# EAGLE library part OSM_1.2_SIZE_0 (library Bauteile)
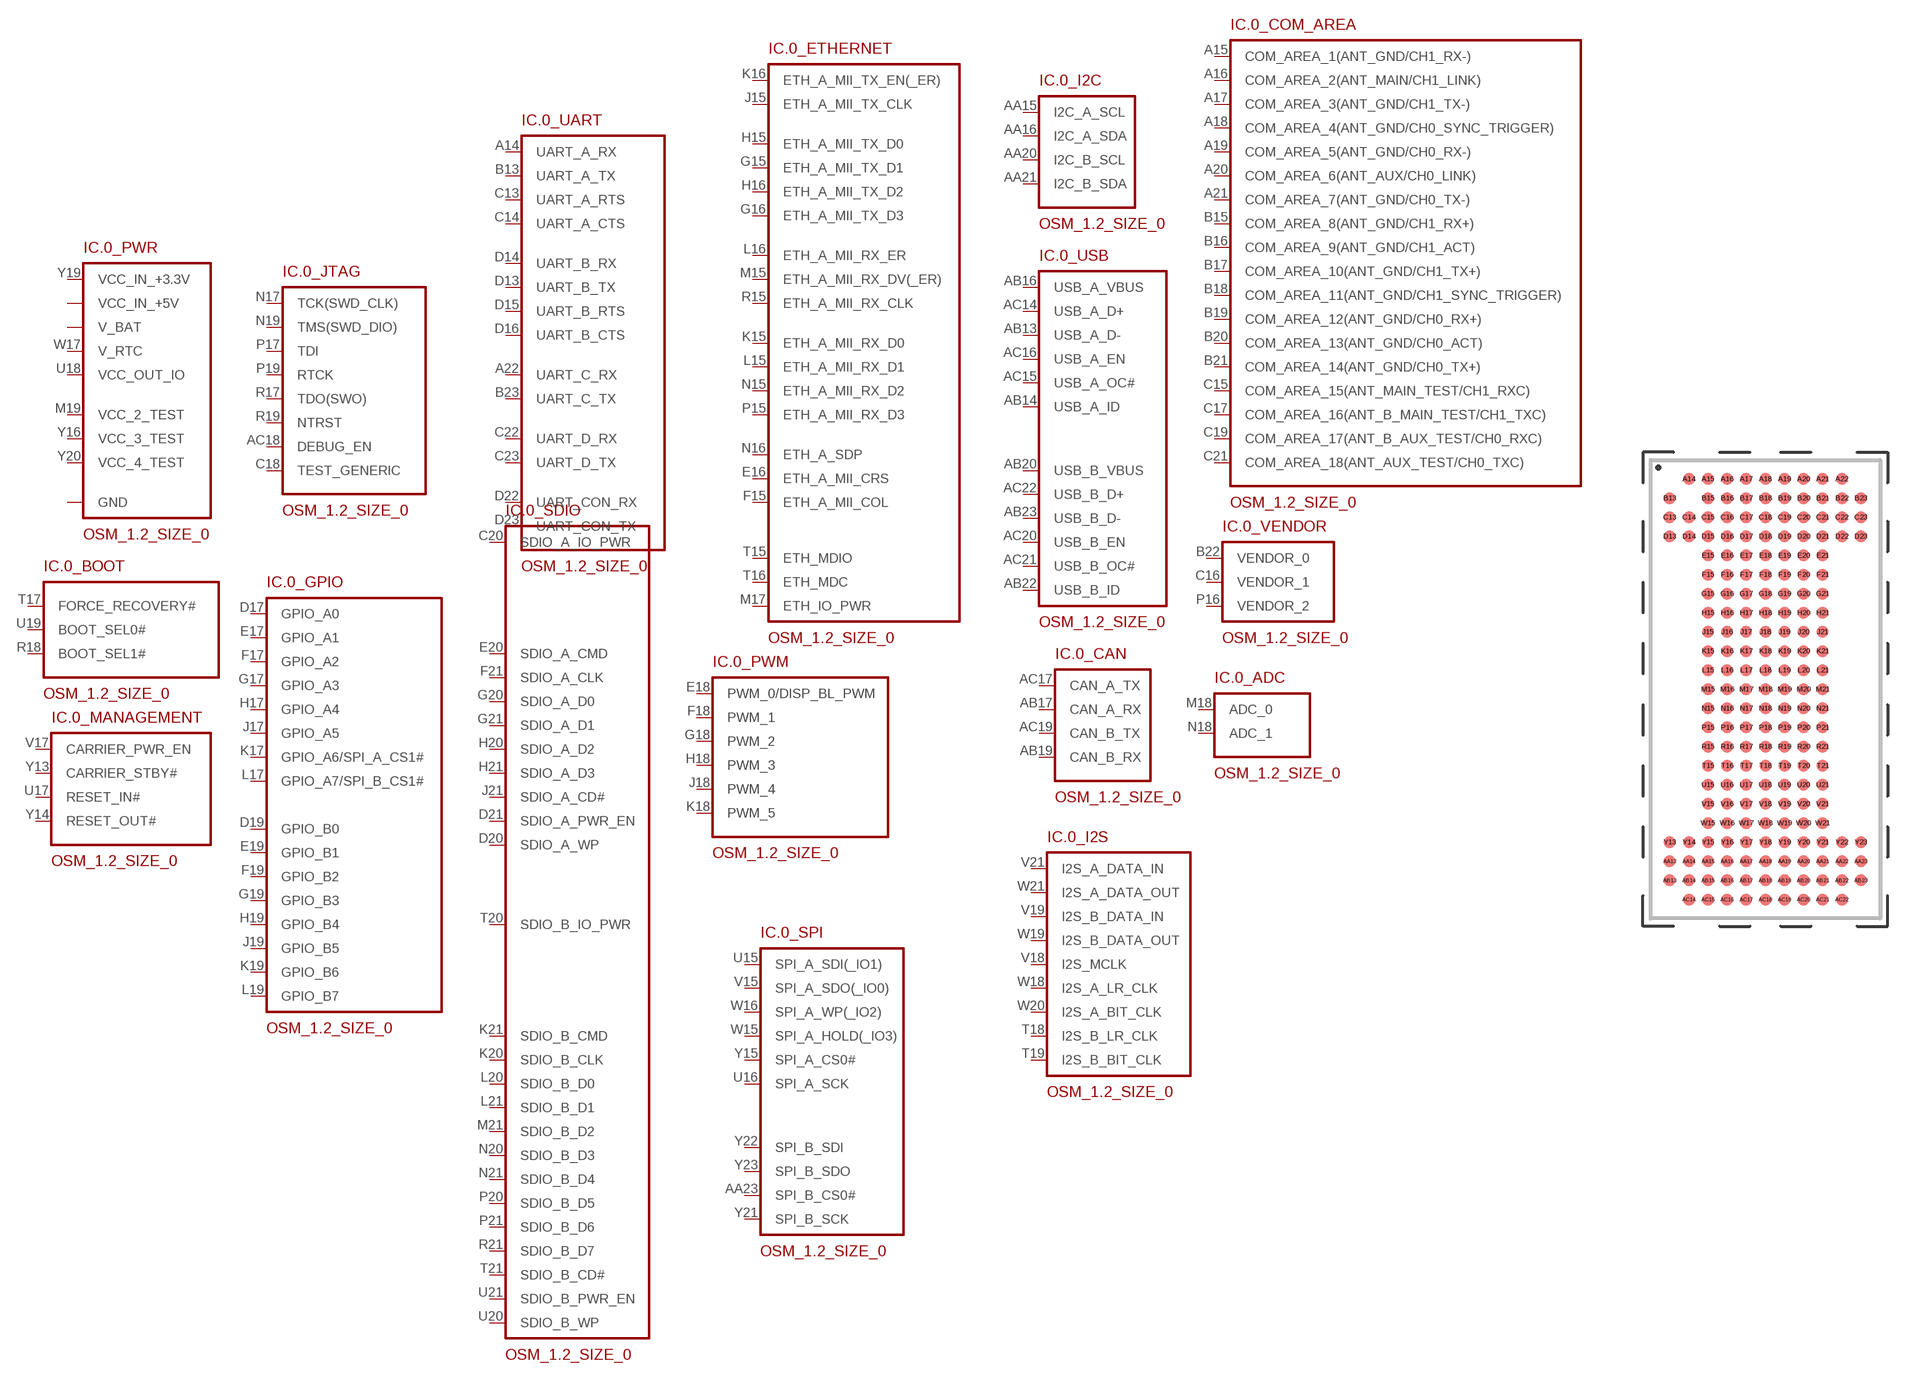
[diagram p209: symbol with the pads of OSM_1.2_SIZE_0; footprint OSM_1.2_SIZE_0]

Designator prefix IC; gates .0_PWR=OSM_1.2_SIZE_0_POWER .0_BOOT=OSM_1.2_SIZE_0_BOOT .0_JTAG=OSM_1.2_SIZE_0_JTAG .0_UART=OSM_1.2_SIZE_0_UART .0_ETHERNET=OSM_1.2_SIZE_0_ETHERNET .0_GPIO=OSM_1.2_SIZE_0_GPIO .0_SDIO=OSM_1.2_SIZE_0_SDIO .0_PWM=OSM_1.2_SIZE_0_PWM .0_ADC=OSM_1.2_SIZE_0_ADC .0_SPI=OSM_1.2_SIZE_0_SPI .0_I2S=OSM_1.2_SIZE_0_I2S .0_CAN=OSM_1.2_SIZE_0_CAN .0_USB=OSM_1.2_SIZE_0_USB .0_I2C=OSM_1.2_SIZE_0_I2C .0_COM_AREA=OSM_1.2_SIZE_0_COM_AREA .0_VENDOR=OSM_1.2_SIZE_0_VENDOR .0_MANAGEMENT=OSM_1.2_SIZE_0_MANAGEMENT

## OSM_1.2_SIZE_0  [OSM_1.2_SIZE_0]
A14  .0_UART:UART_A_RX
A15  .0_COM_AREA:COM_AREA_1(ANT_GND/CH1_RX-)
A16  .0_COM_AREA:COM_AREA_2(ANT_MAIN/CH1_LINK)
A17  .0_COM_AREA:COM_AREA_3(ANT_GND/CH1_TX-)
A18  .0_COM_AREA:COM_AREA_4(ANT_GND/CH0_SYNC_TRIGGER)
A19  .0_COM_AREA:COM_AREA_5(ANT_GND/CH0_RX-)
A20  .0_COM_AREA:COM_AREA_6(ANT_AUX/CH0_LINK)
A21  .0_COM_AREA:COM_AREA_7(ANT_GND/CH0_TX-)
A22  .0_UART:UART_C_RX
AA14  .0_PWR:GND
AA15  .0_I2C:I2C_A_SCL
AA16  .0_I2C:I2C_A_SDA
AA17  .0_PWR:GND
AA18  .0_PWR:V_BAT
AA19  .0_PWR:GND
AA20  .0_I2C:I2C_B_SCL
AA21  .0_I2C:I2C_B_SDA
AA22  .0_PWR:GND
AA23  .0_SPI:SPI_B_CS0#
AB13  .0_USB:USB_A_D-
AB14  .0_USB:USB_A_ID
AB15  .0_PWR:GND
AB16  .0_USB:USB_A_VBUS
AB17  .0_CAN:CAN_A_RX
AB18  .0_PWR:V_BAT
AB19  .0_CAN:CAN_B_RX
AB20  .0_USB:USB_B_VBUS
AB21  .0_PWR:GND
AB22  .0_USB:USB_B_ID
AB23  .0_USB:USB_B_D-
AC14  .0_USB:USB_A_D+
AC15  .0_USB:USB_A_OC#
AC16  .0_USB:USB_A_EN
AC17  .0_CAN:CAN_A_TX
AC18  .0_JTAG:DEBUG_EN
AC19  .0_CAN:CAN_B_TX
AC20  .0_USB:USB_B_EN
AC21  .0_USB:USB_B_OC#
AC22  .0_USB:USB_B_D+
B13  .0_UART:UART_A_TX
B15  .0_COM_AREA:COM_AREA_8(ANT_GND/CH1_RX+)
B16  .0_COM_AREA:COM_AREA_9(ANT_GND/CH1_ACT)
B17  .0_COM_AREA:COM_AREA_10(ANT_GND/CH1_TX+)
B18  .0_COM_AREA:COM_AREA_11(ANT_GND/CH1_SYNC_TRIGGER)
B19  .0_COM_AREA:COM_AREA_12(ANT_GND/CH0_RX+)
B20  .0_COM_AREA:COM_AREA_13(ANT_GND/CH0_ACT)
B21  .0_COM_AREA:COM_AREA_14(ANT_GND/CH0_TX+)
B22  .0_VENDOR:VENDOR_0
B23  .0_UART:UART_C_TX
C13  .0_UART:UART_A_RTS
C14  .0_UART:UART_A_CTS
C15  .0_COM_AREA:COM_AREA_15(ANT_MAIN_TEST/CH1_RXC)
C16  .0_VENDOR:VENDOR_1
C17  .0_COM_AREA:COM_AREA_16(ANT_B_MAIN_TEST/CH1_TXC)
C18  .0_JTAG:TEST_GENERIC
C19  .0_COM_AREA:COM_AREA_17(ANT_B_AUX_TEST/CH0_RXC)
C20  .0_SDIO:SDIO_A_IO_PWR
C21  .0_COM_AREA:COM_AREA_18(ANT_AUX_TEST/CH0_TXC)
C22  .0_UART:UART_D_RX
C23  .0_UART:UART_D_TX
D13  .0_UART:UART_B_TX
D14  .0_UART:UART_B_RX
D15  .0_UART:UART_B_RTS
D16  .0_UART:UART_B_CTS
D17  .0_GPIO:GPIO_A0
D18  .0_PWR:GND
D19  .0_GPIO:GPIO_B0
D20  .0_SDIO:SDIO_A_WP
D21  .0_SDIO:SDIO_A_PWR_EN
D22  .0_UART:UART_CON_RX
D23  .0_UART:UART_CON_TX
E15  .0_PWR:GND
E16  .0_ETHERNET:ETH_A_MII_CRS
E17  .0_GPIO:GPIO_A1
E18  .0_PWM:PWM_0/DISP_BL_PWM
E19  .0_GPIO:GPIO_B1
E20  .0_SDIO:SDIO_A_CMD
E21  .0_PWR:GND
F15  .0_ETHERNET:ETH_A_MII_COL
F16  .0_PWR:GND
F17  .0_GPIO:GPIO_A2
F18  .0_PWM:PWM_1
F19  .0_GPIO:GPIO_B2
F20  .0_PWR:GND
F21  .0_SDIO:SDIO_A_CLK
G15  .0_ETHERNET:ETH_A_MII_TX_D1
G16  .0_ETHERNET:ETH_A_MII_TX_D3
G17  .0_GPIO:GPIO_A3
G18  .0_PWM:PWM_2
G19  .0_GPIO:GPIO_B3
G20  .0_SDIO:SDIO_A_D0
G21  .0_SDIO:SDIO_A_D1
H15  .0_ETHERNET:ETH_A_MII_TX_D0
H16  .0_ETHERNET:ETH_A_MII_TX_D2
H17  .0_GPIO:GPIO_A4
H18  .0_PWM:PWM_3
H19  .0_GPIO:GPIO_B4
H20  .0_SDIO:SDIO_A_D2
H21  .0_SDIO:SDIO_A_D3
J15  .0_ETHERNET:ETH_A_MII_TX_CLK
J16  .0_PWR:GND
J17  .0_GPIO:GPIO_A5
J18  .0_PWM:PWM_4
J19  .0_GPIO:GPIO_B5
J20  .0_PWR:GND
J21  .0_SDIO:SDIO_A_CD#
K15  .0_ETHERNET:ETH_A_MII_RX_D0
K16  .0_ETHERNET:ETH_A_MII_TX_EN(_ER)
K17  .0_GPIO:GPIO_A6/SPI_A_CS1#
K18  .0_PWM:PWM_5
K19  .0_GPIO:GPIO_B6
K20  .0_SDIO:SDIO_B_CLK
K21  .0_SDIO:SDIO_B_CMD
L15  .0_ETHERNET:ETH_A_MII_RX_D1
L16  .0_ETHERNET:ETH_A_MII_RX_ER
L17  .0_GPIO:GPIO_A7/SPI_B_CS1#
L18  .0_PWR:GND
L19  .0_GPIO:GPIO_B7
L20  .0_SDIO:SDIO_B_D0
L21  .0_SDIO:SDIO_B_D1
M15  .0_ETHERNET:ETH_A_MII_RX_DV(_ER)
M16  .0_PWR:GND
M17  .0_ETHERNET:ETH_IO_PWR
M18  .0_ADC:ADC_0
M19  .0_PWR:VCC_2_TEST
M20  .0_PWR:GND
M21  .0_SDIO:SDIO_B_D2
N15  .0_ETHERNET:ETH_A_MII_RX_D2
N16  .0_ETHERNET:ETH_A_SDP
N17  .0_JTAG:TCK(SWD_CLK)
N18  .0_ADC:ADC_1
N19  .0_JTAG:TMS(SWD_DIO)
N20  .0_SDIO:SDIO_B_D3
N21  .0_SDIO:SDIO_B_D4
P15  .0_ETHERNET:ETH_A_MII_RX_D3
P16  .0_VENDOR:VENDOR_2
P17  .0_JTAG:TDI
P18  .0_PWR:GND
P19  .0_JTAG:RTCK
P20  .0_SDIO:SDIO_B_D5
P21  .0_SDIO:SDIO_B_D6
R15  .0_ETHERNET:ETH_A_MII_RX_CLK
R16  .0_PWR:GND
R17  .0_JTAG:TDO(SWO)
R18  .0_BOOT:BOOT_SEL1#
R19  .0_JTAG:NTRST
R20  .0_PWR:GND
R21  .0_SDIO:SDIO_B_D7
T15  .0_ETHERNET:ETH_MDIO
T16  .0_ETHERNET:ETH_MDC
T17  .0_BOOT:FORCE_RECOVERY#
T18  .0_I2S:I2S_B_LR_CLK
T19  .0_I2S:I2S_B_BIT_CLK
T20  .0_SDIO:SDIO_B_IO_PWR
T21  .0_SDIO:SDIO_B_CD#
U15  .0_SPI:SPI_A_SDI(_IO1)
U16  .0_SPI:SPI_A_SCK
U17  .0_MANAGEMENT:RESET_IN#
U18  .0_PWR:VCC_OUT_IO
U19  .0_BOOT:BOOT_SEL0#
U20  .0_SDIO:SDIO_B_WP
U21  .0_SDIO:SDIO_B_PWR_EN
V15  .0_SPI:SPI_A_SDO(_IO0)
V16  .0_PWR:GND
V17  .0_MANAGEMENT:CARRIER_PWR_EN
V18  .0_I2S:I2S_MCLK
V19  .0_I2S:I2S_B_DATA_IN
V20  .0_PWR:GND
V21  .0_I2S:I2S_A_DATA_IN
W15  .0_SPI:SPI_A_HOLD(_IO3)
W16  .0_SPI:SPI_A_WP(_IO2)
W17  .0_PWR:V_RTC
W18  .0_I2S:I2S_A_LR_CLK
W19  .0_I2S:I2S_B_DATA_OUT
W20  .0_I2S:I2S_A_BIT_CLK
W21  .0_I2S:I2S_A_DATA_OUT
Y13  .0_MANAGEMENT:CARRIER_STBY#
Y14  .0_MANAGEMENT:RESET_OUT#
Y15  .0_SPI:SPI_A_CS0#
Y16  .0_PWR:VCC_3_TEST
Y17  .0_PWR:VCC_IN_+5V
Y18  .0_PWR:GND
Y19  .0_PWR:VCC_IN_+3.3V
Y20  .0_PWR:VCC_4_TEST
Y21  .0_SPI:SPI_B_SCK
Y22  .0_SPI:SPI_B_SDI
Y23  .0_SPI:SPI_B_SDO

## Footprint OSM_1.2_SIZE_0 (pad centres in mm)
smd 0.8 x 0.8: A14 -5,13.75; A15 -3.75,13.75; A16 -2.5,13.75; A17 -1.25,13.75; A18 0,13.75; A19 1.25,13.75; A20 2.5,13.75; A21 3.75,13.75; A22 5,13.75; AA13 -6.25,-11.25; AA14 -5,-11.25; AA15 -3.75,-11.25; AA16 -2.5,-11.25; AA17 -1.25,-11.25; AA18 0,-11.25; AA19 1.25,-11.25; AA20 2.5,-11.25; AA21 3.75,-11.25; AA22 5,-11.25; AA23 6.25,-11.25; AB13 -6.25,-12.5; AB14 -5,-12.5; AB15 -3.75,-12.5; AB16 -2.5,-12.5; AB17 -1.25,-12.5; AB18 0,-12.5; AB19 1.25,-12.5; AB20 2.5,-12.5; AB21 3.75,-12.5; AB22 5,-12.5; AB23 6.25,-12.5; AC14 -5,-13.75; AC15 -3.75,-13.75; AC16 -2.5,-13.75; AC17 -1.25,-13.75; AC18 0,-13.75; AC19 1.25,-13.75; AC20 2.5,-13.75; AC21 3.75,-13.75; AC22 5,-13.75; B13 -6.25,12.5; B15 -3.75,12.5; B16 -2.5,12.5; B17 -1.25,12.5; B18 0,12.5; B19 1.25,12.5; B20 2.5,12.5; B21 3.75,12.5; B22 5,12.5; B23 6.25,12.5; C13 -6.25,11.25; C14 -5,11.25; C15 -3.75,11.25; C16 -2.5,11.25; C17 -1.25,11.25; C18 0,11.25; C19 1.25,11.25; C20 2.5,11.25; C21 3.75,11.25; C22 5,11.25; C23 6.25,11.25; D13 -6.25,10; D14 -5,10; D15 -3.75,10; D16 -2.5,10; D17 -1.25,10; D18 0,10; D19 1.25,10; D20 2.5,10; D21 3.75,10; D22 5,10; D23 6.25,10; E15 -3.75,8.75; E16 -2.5,8.75; E17 -1.25,8.75; E18 0,8.75; E19 1.25,8.75; E20 2.5,8.75; E21 3.75,8.75; F15 -3.75,7.5; F16 -2.5,7.5; F17 -1.25,7.5; F18 0,7.5; F19 1.25,7.5; F20 2.5,7.5; F21 3.75,7.5; G15 -3.75,6.25; G16 -2.5,6.25; G17 -1.25,6.25; G18 0,6.25; G19 1.25,6.25; G20 2.5,6.25; G21 3.75,6.25; H15 -3.75,5; H16 -2.5,5; H17 -1.25,5; H18 0,5; H19 1.25,5; H20 2.5,5; H21 3.75,5; J15 -3.75,3.75; J16 -2.5,3.75; J17 -1.25,3.75; J18 0,3.75; J19 1.25,3.75; J20 2.5,3.75; J21 3.75,3.75; K15 -3.75,2.5; K16 -2.5,2.5; K17 -1.25,2.5; K18 0,2.5; K19 1.25,2.5; K20 2.5,2.5; K21 3.75,2.5; L15 -3.75,1.25; L16 -2.5,1.25; L17 -1.25,1.25; L18 0,1.25; L19 1.25,1.25; L20 2.5,1.25; L21 3.75,1.25; M15 -3.75,0; M16 -2.5,0; M17 -1.25,0; M18 0,0; M19 1.25,0; M20 2.5,0; M21 3.75,0; N15 -3.75,-1.25; N16 -2.5,-1.25; N17 -1.25,-1.25; N18 0,-1.25; N19 1.25,-1.25; N20 2.5,-1.25; N21 3.75,-1.25; P15 -3.75,-2.5; P16 -2.5,-2.5; P17 -1.25,-2.5; P18 0,-2.5; P19 1.25,-2.5; P20 2.5,-2.5; P21 3.75,-2.5; R15 -3.75,-3.75; R16 -2.5,-3.75; R17 -1.25,-3.75; R18 0,-3.75; R19 1.25,-3.75; R20 2.5,-3.75; R21 3.75,-3.75; T15 -3.75,-5; T16 -2.5,-5; T17 -1.25,-5; T18 0,-5; T19 1.25,-5; T20 2.5,-5; T21 3.75,-5; U15 -3.75,-6.25; U16 -2.5,-6.25; U17 -1.25,-6.25; U18 0,-6.25; U19 1.25,-6.25; U20 2.5,-6.25; U21 3.75,-6.25; V15 -3.75,-7.5; V16 -2.5,-7.5; V17 -1.25,-7.5; V18 0,-7.5; V19 1.25,-7.5; V20 2.5,-7.5; V21 3.75,-7.5; W15 -3.75,-8.75; W16 -2.5,-8.75; W17 -1.25,-8.75; W18 0,-8.75; W19 1.25,-8.75; W20 2.5,-8.75; W21 3.75,-8.75; Y13 -6.25,-10; Y14 -5,-10; Y15 -3.75,-10; Y16 -2.5,-10; Y17 -1.25,-10; Y18 0,-10; Y19 1.25,-10; Y20 2.5,-10; Y21 3.75,-10; Y22 5,-10; Y23 6.25,-10